# EAGLE library part FRDM-KL25Z (library Freedom)
For creating FRDM-KL25Z shields
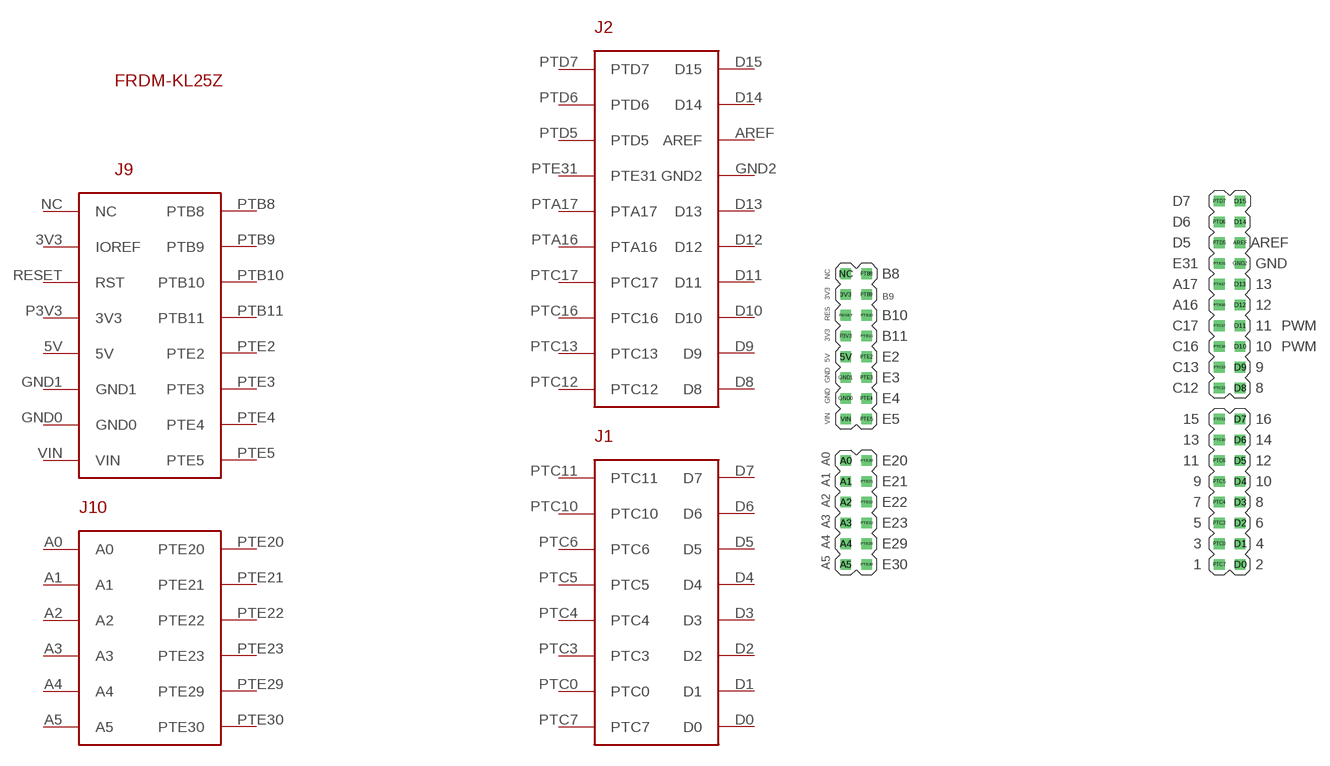
[diagram p0: symbol with the pads of FRDM-KL25Z; footprint FRDM-KL25Z]

Designator prefix FRDM

## FRDM-KL25ZARDUINO  [FRDM-KL25Z]
3V3  IOREF
5V  5V
A0  A0
A1  A1
A2  A2
A3  A3
A4  A4
A5  A5
AREF  AREF
D0  D0
D1  D1
D2  D2
D3  D3
D4  D4
D5  D5
D6  D6
D7  D7
D8  D8
D9  D9
D10  D10
D11  D11
D12  D12
D13  D13
D14  D14
D15  D15
GND0  GND0
GND1  GND1
GND2  GND2
NC  NC
P3V3  3V3
PTA16  PTA16
PTA17  PTA17
PTB8  PTB8
PTB9  PTB9
PTB10  PTB10
PTB11  PTB11
PTC0  PTC0
PTC3  PTC3
PTC4  PTC4
PTC5  PTC5
PTC6  PTC6
PTC7  PTC7
PTC10  PTC10
PTC11  PTC11
PTC12  PTC12
PTC13  PTC13
PTC16  PTC16
PTC17  PTC17
PTD5  PTD5
PTD6  PTD6
PTD7  PTD7
PTE2  PTE2
PTE3  PTE3
PTE4  PTE4
PTE5  PTE5
PTE20  PTE20
PTE21  PTE21
PTE22  PTE22
PTE23  PTE23
PTE29  PTE29
PTE30  PTE30
PTE31  PTE31
RESET  RST
VIN  VIN

## Footprint FRDM-KL25Z (pad centres in mm)
Use straight headers (2 6-pin and 2 8-pin) to connect to an Arduino
drill 0.8 square: 3V3 -22.86,12.7; 5V -22.86,5.08; A0 -22.86,-7.62; A1 -22.86,-10.16; A2 -22.86,-12.7; A3 -22.86,-15.24; A4 -22.86,-17.78; A5 -22.86,-20.32; AREF 25.4,19.05; D0 25.4,-20.32; D1 25.4,-17.78; D2 25.4,-15.24; D3 25.4,-12.7; D4 25.4,-10.16; D5 25.4,-7.62; D6 25.4,-5.08; D7 25.4,-2.54; D8 25.4,1.27; D9 25.4,3.81; D10 25.4,6.35; D11 25.4,8.89; D12 25.4,11.43; D13 25.4,13.97; D14 25.4,21.59; D15 25.4,24.13; GND0 -22.86,0; GND1 -22.86,2.54; GND2 25.4,16.51; NC -22.86,15.24; P3V3 -22.86,7.62; PTA16 22.86,11.43; PTA17 22.86,13.97; PTB8 -20.32,15.24; PTB9 -20.32,12.7; PTB10 -20.32,10.16; PTB11 -20.32,7.62; PTC0 22.86,-17.78; PTC3 22.86,-15.24; PTC4 22.86,-12.7; PTC5 22.86,-10.16; PTC6 22.86,-7.62; PTC7 22.86,-20.32; PTC10 22.86,-5.08; PTC11 22.86,-2.54; PTC12 22.86,1.27; PTC13 22.86,3.81; PTC16 22.86,6.35; PTC17 22.86,8.89; PTD5 22.86,19.05; PTD6 22.86,21.59; PTD7 22.86,24.13; PTE2 -20.32,5.08; PTE3 -20.32,2.54; PTE4 -20.32,0; PTE5 -20.32,-2.54; PTE20 -20.32,-7.62; PTE21 -20.32,-10.16; PTE22 -20.32,-12.7; PTE23 -20.32,-15.24; PTE29 -20.32,-17.78; PTE30 -20.32,-20.32; PTE31 22.86,16.51; RESET -22.86,10.16; VIN -22.86,-2.54